# EAGLE library part ADP3300 (library gw10)
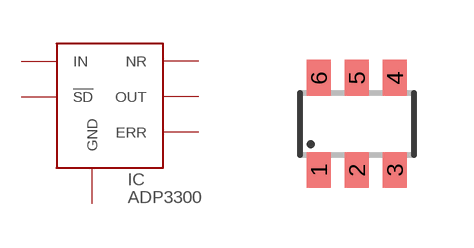
[diagram p5: symbol with the pads of SOT23-6; footprint SOT23-6]

Designator prefix IC

## ADP3300  [SOT23-6]
1  GND  pwr
2  NR  in
3  !SD  in
4  OUT  pas
5  IN  pwr
6  ERR  out

## Footprint SOT23-6 (pad centres in mm)
Small Outline Transistor 6 lead
smd 0.6 x 0.9: 1 -0.95,-1.15; 2 0,-1.15; 3 0.95,-1.15; 4 0.95,1.15; 5 0,1.15; 6 -0.95,1.15